# EAGLE library part TLC374 (library SquantorIC)
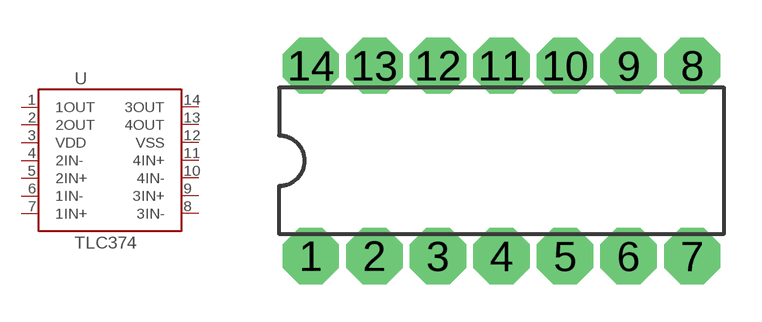
[diagram p7: symbol with the pads of DIL14_1.5MM; footprint DIL14_1.5MM]

Designator prefix -

## TLC374  [DIL14_1.5MM]
1  1OUT  oc
2  2OUT  oc
3  VDD  pwr
4  2IN-  in
5  2IN+  in
6  1IN-  in
7  1IN+  in
8  3IN-  in
9  3IN+  in
10  4IN-  in
11  4IN+  in
12  VSS  pwr
13  4OUT  oc
14  3OUT  oc

## Footprint DIL14_1.5MM (pad centres in mm)
drill 1.5 octagon: 1 -7.62,-3.81; 2 -5.08,-3.81; 3 -2.54,-3.81; 4 0,-3.81; 5 2.54,-3.81; 6 5.08,-3.81; 7 7.62,-3.81; 8 7.62,3.81; 9 5.08,3.81; 10 2.54,3.81; 11 0,3.81; 12 -2.54,3.81; 13 -5.08,3.81; 14 -7.62,3.81